# Altium footprint library Cap(pol).PcbLib: 1 footprints
Each footprint in its own frame and in the unit in brackets; x right, y up, seen from the top. Pads: shape width x height; smd on the part's side, far side on the other; paste and mask are expansions set on the pad; w line width, h text height; cw(c..) or ccw(c..) is an arc to the next point about the centre after c.
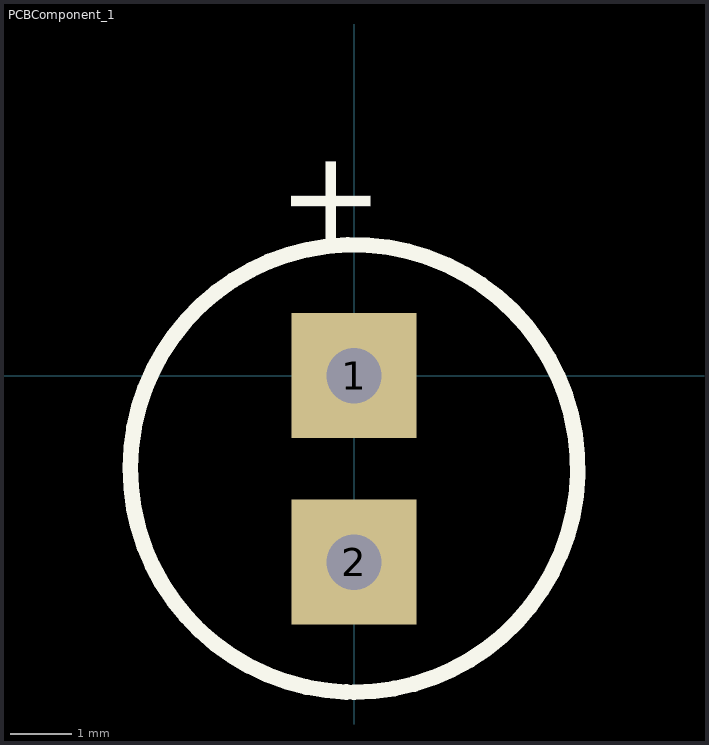
[diagram p0: the footprint, top view; thin cyan lines are the x and y axes]

## PCBComponent_1 [mil]
pads (2):
  rect 80x80 hole 35.42: 1(0,0) 2(0,-119.37)
Top Overlay:
  lines w10: -4.93,-202.46 cw(c0,-59.37) 0,-202.55
  text "+" at -40,145.63 h59.06